# EAGLE library part CAN33X (library TCAN33x - 3.3V CAN Transciever)
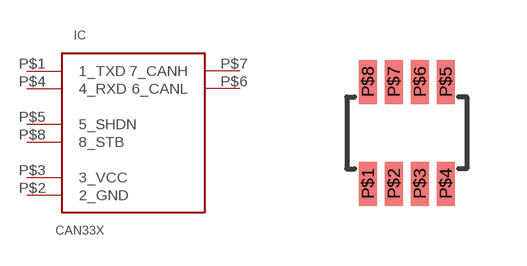
[diagram p0: symbol with the pads of SOT23-8; footprint SOT23-8]

Designator prefix IC

## CAN33X  [SOT23-8]
P$1  1_TXD  in
P$2  2_GND  pwr
P$3  3_VCC  pwr
P$4  4_RXD  out
P$5  5_SHDN  in
P$6  6_CANL
P$7  7_CANH
P$8  8_STB  in

## Footprint SOT23-8 (pad centres in mm)
smd 0.45 x 1.1: P$1 -0.975,-1.275; P$2 -0.325,-1.275; P$3 0.325,-1.275; P$4 0.975,-1.275; P$5 0.975,1.275; P$6 0.325,1.275; P$7 -0.325,1.275; P$8 -0.975,1.275